# EAGLE library part ICSP (library Diplomarbeit)
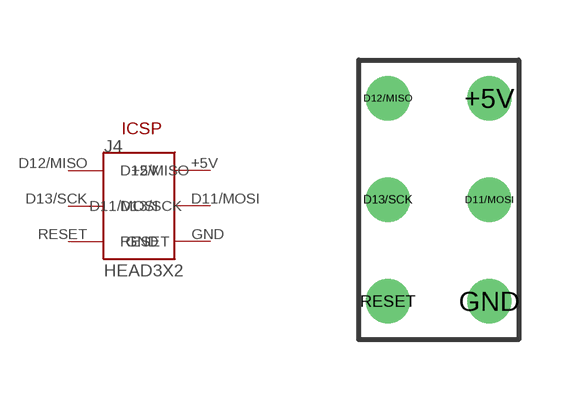
[diagram p5: symbol with the pads of ICSP; footprint ICSP]

Designator prefix -

## ICSP  [ICSP]
+5V  +5V
D11/MOSI  D11/MOSI
D12/MISO  D12/MISO
D13/SCK  D13/SCK
GND  GND
RESET  RESET

## Footprint ICSP (pad centres in mm)
drill 0.6: +5V 1.27,2.54; D11/MOSI 1.27,0; D12/MISO -1.27,2.54; D13/SCK -1.27,0; GND 1.27,-2.54; RESET -1.27,-2.54